# Altium footprint library Resistor_Smd_M3225_I1210.PcbLib: 1 footprints
Each footprint in its own frame and in the unit in brackets; x right, y up, seen from the top. Pads: shape width x height; smd on the part's side, far side on the other; paste and mask are expansions set on the pad; w line width, h text height; cw(c..) or ccw(c..) is an arc to the next point about the centre after c.
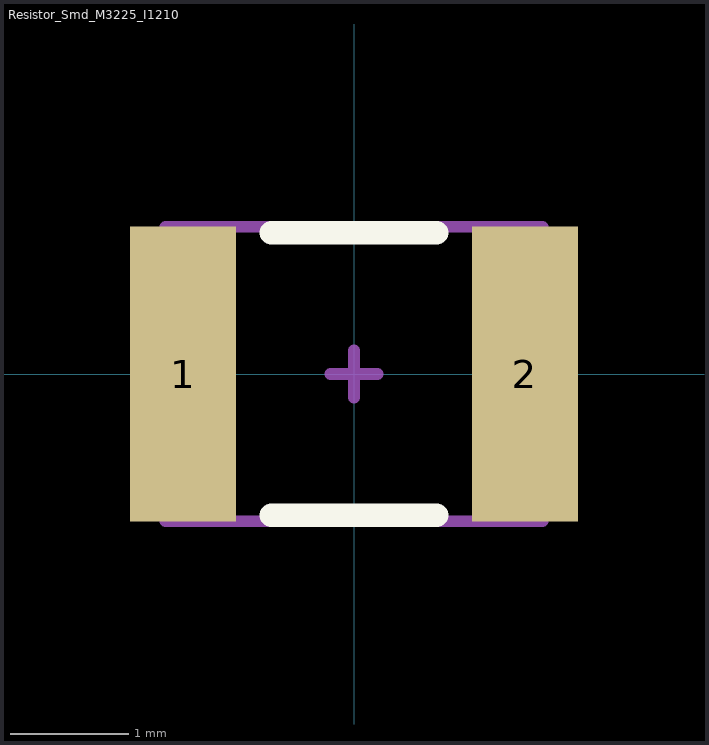
[diagram p0: the footprint, top view; thin cyan lines are the x and y axes]

## Resistor_Smd_M3225_I1210 [mm] "Resistor_Smd_M3225_I1210"
height 0.55
pads (2):
  rect 0.9x2.5 smd mask+0.05: 1(-1.45,0) 2(1.45,0)
Top Overlay:
  lines w0.2: -0.7,-1.2 0.7,-1.2 ; -0.7,1.2 0.7,1.2
Top Assembly:
  lines w0.1: -1.6,-1.25 1.6,-1.25 1.6,1.25 -1.6,1.25 -1.6,-1.25
Top Designator:
  text ".Designator" at -2.1,-2.375 h1.2
Top Component Center:
  lines w0.1: -0.2,0 0.2,0 ; 0,-0.2 0,0.2
3D body "Resistor_Smd_M3225_I1210.step": height 0.65, standoff 0, extent -1.6,-1.26 1.6,1.26